# EAGLE library part 0430450612 (library Molex)
6 ポジション ヘッダ コネクタ 0.118インチ（3.00mm） スルーホール 錫
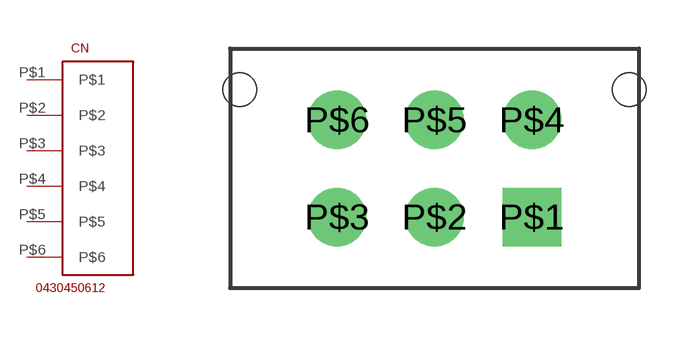
[diagram p0: symbol with the pads of 0430450612; footprint 0430450612]

Designator prefix CN

## 0430450612  [0430450612]
P$1  P$1
P$2  P$2
P$3  P$3
P$4  P$4
P$5  P$5
P$6  P$6

## Footprint 0430450612 (pad centres in mm)
drill 1.2 square: P$1 3,-1.5
drill 1.2: P$2 0,-1.5; P$3 -3,-1.5; P$4 3,1.5; P$5 0,1.5; P$6 -3,1.5
hole 1.03 at -6,2.44
hole 1.03 at 6,2.44